# Altium schematic symbol library L717SDCH37POL2.SchLib: 1 symbol
Pins are listed as number, name and electrical type; pins without a type are passive.

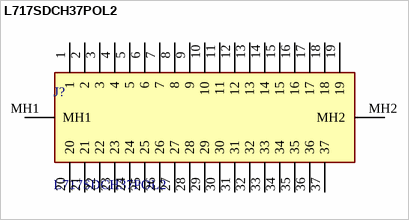
[diagram p0: symbol L717SDCH37POL2]

## L717SDCH37POL2
designator J?
Dsub, Stamped Signal 3A, Straight PCB Thru Hole, 37 Pin, Flash Gold, Bright Tin Shell+Grounding Dimples, 4-40 Rear Nut Height 5.9mm; Manufacturer_Name: Amphenol Communications Solutions; Geometry.Height: 12.5mm; Mouser Part Number: *; Mouser Price/Stock: *; Manufacturer_Part_Number: L717SDCH37POL2; Datasheet Link: https://cdn.amphenol-cs.com/media/wysiwyg/files/drawing/l717sdxhxxpol2.pdf
footprint L717SDCH37POL2
pins: 1, 2, 3, 4, 5, 6, 7, 8, 9, 10, 11, 12, 13, 14, 15, 16, 17, 18, 19, 20, 21, 22, 23, 24, 25, 26, 27, 28, 29, 30, 31, 32, 33, 34, 35, 36, 37, MH1, MH2